# EAGLE library part PCA82C251 (library breakout)
PCA82C251 CAN coupler
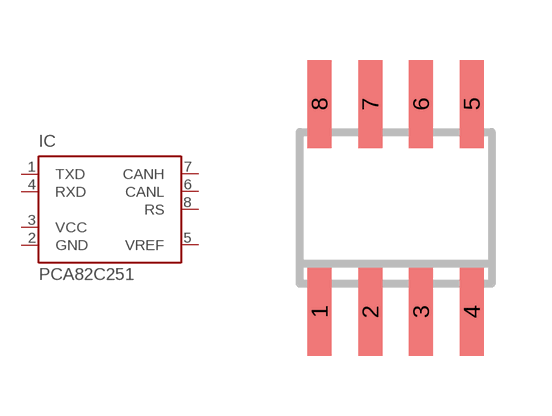
[diagram p1: symbol with the pads of SO-08; footprint SO-08]

Designator prefix IC

## PCA82C251  [SO-08]
1  TXD  out
2  GND  out
3  VCC  out
4  RXD  out
5  VREF  out
6  CANL  out
7  CANH  out
8  RS  out

## Footprint SO-08 (pad centres in mm)
Small Outline Narrow Plastic Gull Wing 150-mil body, package type SN
smd 0.6 x 2.2: 1 -1.905,-2.6; 2 -0.635,-2.6; 3 0.635,-2.6; 4 1.905,-2.6; 5 1.905,2.6; 6 0.635,2.6; 7 -0.635,2.6; 8 -1.905,2.6